# Altium integrated library Zarlink Comm Telephone Circuit.IntLib: 11 symbols
Pins are listed as number, name and electrical type; pins without a type are passive.

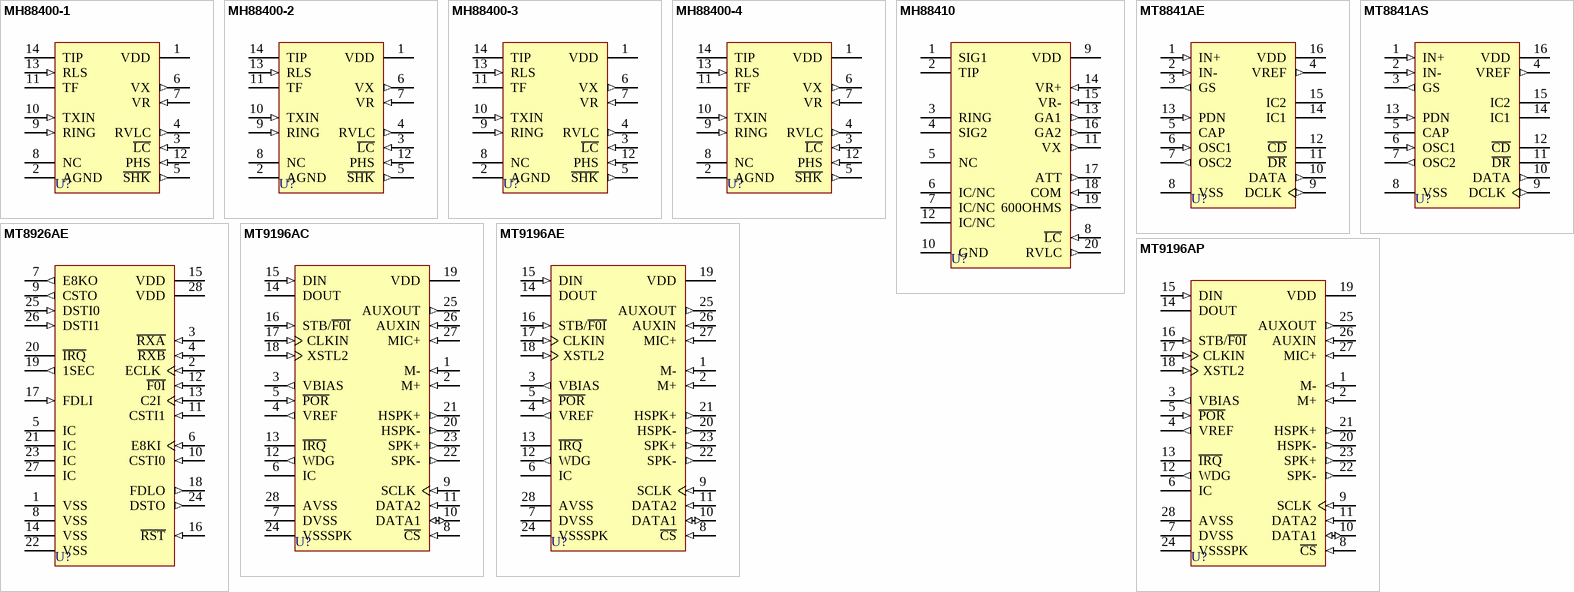
[diagram p0: symbols MH88400-1 to MT9196AP]

## MH88400-1
designator U?
Line Interface Circuit; Published: 8-Jun-2000; LatestRevisionDate: 17-Jul-2002; LatestRevisionNote: Re-released for DXP Platform.; DatasheetVersion: Issue 1 April 1995; PackageVersion: Apr-1995; PackageReference: DIL14; Publisher: Altium Limited; PackageDescription: DIP; 14 Round Pins; Row Space 22.86 mm; Pitch 5.08 mm; ComponentLink1Description: Manufacturer Link; ComponentLink1URL: http://www.zarlink.com/
footprint DIL14 (DIP; 14 Round Pins; Row Space 22.86 mm; Pitch 5.08 mm)
pins: 1 VDD (power), 2 AGND (power), 3 ~{LC} (in), 4 RVLC (out), 5 ~{SHK} (out), 6 VX (out), 7 VR (in), 8 NC, 9 RING (in), 10 TXIN (in), 11 TF, 12 PHS (in), 13 RLS (in), 14 TIP

## MH88400-2
designator U?
Line Interface Circuit; Published: 8-Jun-2000; LatestRevisionDate: 17-Jul-2002; LatestRevisionNote: Re-released for DXP Platform.; DatasheetVersion: Issue 1 April 1995; PackageVersion: Apr-1995; PackageReference: DIL14; Publisher: Altium Limited; PackageDescription: DIP; 14 Round Pins; Row Space 22.86 mm; Pitch 5.08 mm; ComponentLink1Description: Manufacturer Link; ComponentLink1URL: http://www.zarlink.com/
footprint DIL14 (DIP; 14 Round Pins; Row Space 22.86 mm; Pitch 5.08 mm)
pins: 1 VDD (power), 2 AGND (power), 3 ~{LC} (in), 4 RVLC (out), 5 ~{SHK} (out), 6 VX (out), 7 VR (in), 8 NC, 9 RING (in), 10 TXIN (in), 11 TF, 12 PHS (in), 13 RLS (in), 14 TIP

## MH88400-3
designator U?
Line Interface Circuit; Published: 8-Jun-2000; LatestRevisionDate: 17-Jul-2002; LatestRevisionNote: Re-released for DXP Platform.; DatasheetVersion: Issue 1 April 1995; PackageVersion: Apr-1995; PackageReference: DIL14; Publisher: Altium Limited; PackageDescription: DIP; 14 Round Pins; Row Space 22.86 mm; Pitch 5.08 mm; ComponentLink1Description: Manufacturer Link; ComponentLink1URL: http://www.zarlink.com/
footprint DIL14 (DIP; 14 Round Pins; Row Space 22.86 mm; Pitch 5.08 mm)
pins: 1 VDD (power), 2 AGND (power), 3 ~{LC} (in), 4 RVLC (out), 5 ~{SHK} (out), 6 VX (out), 7 VR (in), 8 NC, 9 RING (in), 10 TXIN (in), 11 TF, 12 PHS (in), 13 RLS (in), 14 TIP

## MH88400-4
designator U?
Line Interface Circuit; Published: 8-Jun-2000; LatestRevisionDate: 17-Jul-2002; LatestRevisionNote: Re-released for DXP Platform.; DatasheetVersion: Jan-1994; PackageVersion: Apr-1995; PackageReference: DIL14; Publisher: Altium Limited; PackageDescription: DIP; 14 Round Pins; Row Space 22.86 mm; Pitch 5.08 mm; ComponentLink1Description: Manufacturer Link; ComponentLink1URL: http://www.zarlink.com/
footprint DIL14 (DIP; 14 Round Pins; Row Space 22.86 mm; Pitch 5.08 mm)
pins: 1 VDD (power), 2 AGND (power), 3 ~{LC} (in), 4 RVLC (out), 5 ~{SHK} (out), 6 VX (out), 7 VR (in), 8 NC, 9 RING (in), 10 TXIN (in), 11 TF, 12 PHS (in), 13 RLS (in), 14 TIP

## MH88410
designator U?
Line Interface Circuit; Note: Pin 5, 6, 7 and 12 should be left unconnected.; ComponentAvailability: Obsolete; Published: 8-Jun-2000; LatestRevisionDate: 17-Jul-2002; LatestRevisionNote: Re-released for DXP Platform.; DatasheetVersion: Jan-1994; PackageReference: SIL20B; Publisher: Altium Limited; PackageDescription: SIP; 20 Leads; Body 50.8 x 8.4 mm (LxW typ); Pitch 2.54 mm; ComponentLink1Description: Manufacturer Link; ComponentLink1URL: http://www.zarlink.com/; ComponentLink2Description: Datasheet; ComponentLink2URL: http://assets.zarlink.com/DS/zarlink_MT8841_JAN_01.pdf; ComponentLink3Description: Discontinuation Notice; ComponentLink3URL: http://products.zarlink.com/product_profiles/MT8841.htm
footprint SIL20B (SIP; 20 Leads; Body 50.8 x 8.4 mm (LxW typ); Pitch 2.54 mm)
pins: 1 SIG1, 2 TIP, 3 RING, 4 SIG2, 5 NC, 6 IC/NC, 7 IC/NC, 8 ~{LC} (in), 9 VDD (power), 10 GND (power), 11 VX (out), 12 IC/NC, 13 GA1 (out), 14 VR+ (in), 15 VR- (in), 16 GA2 (out), 17 ATT (out), 18 COM (in), 19 600OHMS (out), 20 RVLC (out)

## MT8841AE
designator U?
Calling Number Identification Circuit; Note: Tie pin 14 to VSS; leave pin 15 open.; ComponentAvailability: Obsolete; Published: 8-Jun-2000; LatestRevisionDate: 17-Jul-2002; LatestRevisionNote: Re-released for DXP Platform.; DatasheetVersion: Issue 4 May 1995; PackageVersion: 1997; PackageReference: PDIP16; Publisher: Altium Limited; PackageDescription: DIP; 16 Leads; Row Spacing 7.62 mm; Pitch 2.54 mm; ComponentLink1Description: Manufacturer Link; ComponentLink1URL: http://www.zarlink.com/; ComponentLink2Description: Datasheet; ComponentLink2URL: http://assets.zarlink.com/DS/zarlink_MT8841_JAN_01.pdf; ComponentLink3Description: Discontinuation Notice; ComponentLink3URL: http://products.zarlink.com/product_profiles/MT8841.htm
footprint PDIP16 (DIP; 16 Leads; Row Spacing 7.62 mm; Pitch 2.54 mm)
pins: 1 IN+ (in), 2 IN- (in), 3 GS (out), 4 VREF (out), 5 CAP, 6 OSC1 (in), 7 OSC2 (out), 8 VSS (power), 9 DCLK (out), 10 DATA (out), 11 ~{DR} (oc), 12 ~{CD} (oc), 13 PDN (in), 14 IC1, 15 IC2, 16 VDD (power)

## MT8841AS
designator U?
Calling Number Identification Circuit; Note: Tie pin 14 to VSS; leave pin 15 open.; Published: 8-Jun-2000; LatestRevisionDate: 13-Apr-2006; LatestRevisionNote: IPC-7351 Footprint Added.; DatasheetVersion: Issue 4 May 1995; PackageVersion: 1997; PackageReference: SOIC16; Publisher: Altium Limited; PackageDescription: 16-Pin Small Outline Integrated Circuit 1.27 mm Pitch; Code_JEDEC: MS-013-AA; Code_IPC: SOIC127P1030-16; ComponentLink1Description: Manufacturer Link; ComponentLink1URL: http://www.zarlink.com/; ComponentLink2Description: Datasheet; ComponentLink2URL: http://assets.zarlink.com/DS/zarlink_MT8841_JAN_01.pdf; ComponentLink3Description: Discontinuation Notice; ComponentLink3URL: http://products.zarlink.com/product_profiles/MT8841.htm
footprint SOIC16_N (SOIC, 16-Leads, Body 10.3x7.6mm, Pitch 1.27mm, IPC Medium Density)
footprint SOIC16_L (SOIC, 16-Leads, Body 10.3x7.6mm, Pitch 1.27mm, IPC High Density)
footprint SOIC16_M (SOIC, 16-Leads, Body 10.3x7.6mm, Pitch 1.27mm, IPC Low Density)
pins: 1 IN+ (in), 2 IN- (in), 3 GS (out), 4 VREF (out), 5 CAP, 6 OSC1 (in), 7 OSC2 (out), 8 VSS (power), 9 DCLK (out), 10 DATA (out), 11 ~{DR} (oc), 12 ~{CD} (oc), 13 PDN (in), 14 IC1, 15 IC2, 16 VDD (power)

## MT8926AE
designator U?
T1 Performance Monitoring Adjust Circuit (PMAC); Note: Tie pin 5 and 27 to VSS for normal operation; pins 21 ans 23 must be left open for normal operation.; ComponentAvailability: Obsolete; Published: 8-Jun-2000; LatestRevisionDate: 17-Jul-2002; LatestRevisionNote: Re-released for DXP Platform.; DatasheetVersion: Issue 3 July 1993; PackageVersion: 1997; PackageReference: PDIP28; Publisher: Altium Limited; PackageDescription: DIP; 28 Leads; Row Spacing 15.24 mm; Pitch 2.54 mm; Code_JEDEC: MS-011-AB; ComponentLink1Description: Manufacturer Link; ComponentLink1URL: http://www.zarlink.com/; ComponentLink2Description: Datasheet; ComponentLink2URL: http://assets.zarlink.com/DS/zarlink_MT8926_JAN_97.pdf
footprint PDIP28 (DIP; 28 Leads; Row Spacing 15.24 mm; Pitch 2.54 mm)
pins: 1 VSS (power), 2 ECLK (in), 3 ~{RXA} (in), 4 ~{RXB} (in), 5 IC, 6 E8KI (in), 7 E8KO (out), 8 VSS (power), 9 CSTO (out), 10 CSTI0 (in), 11 CSTI1 (in), 12 ~{F0I} (in), 13 C2I (in), 14 VSS (power), 15 VDD (power), 16 ~{RST} (in), 17 FDLI (in), 18 FDLO (out), 19 1SEC (out), 20 ~{IRQ} (oc), 21 IC, 22 VSS (power), 23 IC, 24 DSTO (out), 25 DSTI0 (in), 26 DSTI1 (in), 27 IC, 28 VDD (power)

## MT9196AC
designator U?
C-Phone; Note: Tie pin 6 externally to VSS for normal operation.; Published: 8-Jun-2000; LatestRevisionDate: 17-Jul-2002; LatestRevisionNote: Re-released for DXP Platform.; DatasheetVersion: Issue 1 September 1993; PackageVersion: 1995; PackageReference: CDIP28; Publisher: Altium Limited; PackageDescription: DIP; 28 Leads; Row Spacing 15.24 mm; Pitch 2.54 mm; ComponentLink1Description: Manufacturer Link; ComponentLink1URL: http://www.zarlink.com/; ComponentLink2Description: Datasheet; ComponentLink2URL: http://assets.zarlink.com/DS/zarlink_MT9196_MAY_05.pdf
footprint CDIP28 (DIP; 28 Leads; Row Spacing 15.24 mm; Pitch 2.54 mm)
pins: 1 M- (in), 2 M+ (in), 3 VBIAS (out), 4 VREF (out), 5 ~{POR} (in), 6 IC, 7 DVSS (power), 8 ~{CS} (in), 9 SCLK (in), 10 DATA1 (io), 11 DATA2 (in), 12 WDG (out), 13 ~{IRQ} (oc), 14 DOUT (hiz), 15 DIN (in), 16 STB/~{F0I} (in), 17 CLKIN (in), 18 XSTL2 (in), 19 VDD (power), 20 HSPK- (out), 21 HSPK+ (out), 22 SPK- (out), 23 SPK+ (out), 24 VSSSPK (power), 25 AUXOUT (out), 26 AUXIN (in), 27 MIC+ (in), 28 AVSS (power)

## MT9196AE
designator U?
Integrated Digital Phone Circuit (IDPC); Note: Tie pin 6 to VSS externally for normal operation.; Published: 8-Jun-2000; LatestRevisionDate: 17-Jul-2002; LatestRevisionNote: Re-released for DXP Platform.; DatasheetVersion: Issue 4 December 1995; PackageVersion: 1997; PackageReference: PDIP28; Publisher: Altium Limited; PackageDescription: DIP; 28 Leads; Row Spacing 15.24 mm; Pitch 2.54 mm; Code_JEDEC: MS-011-AB; ComponentLink1Description: Manufacturer Link; ComponentLink1URL: http://www.zarlink.com/; ComponentLink2Description: Datasheet; ComponentLink2URL: http://assets.zarlink.com/DS/zarlink_MT9196_MAY_05.pdf
footprint PDIP28 (DIP; 28 Leads; Row Spacing 15.24 mm; Pitch 2.54 mm)
pins: 1 M- (in), 2 M+ (in), 3 VBIAS (out), 4 VREF (out), 5 ~{POR} (in), 6 IC, 7 DVSS (power), 8 ~{CS} (in), 9 SCLK (in), 10 DATA1 (io), 11 DATA2 (in), 12 WDG (out), 13 ~{IRQ} (oc), 14 DOUT (hiz), 15 DIN (in), 16 STB/~{F0I} (in), 17 CLKIN (in), 18 XSTL2 (in), 19 VDD (power), 20 HSPK- (out), 21 HSPK+ (out), 22 SPK- (out), 23 SPK+ (out), 24 VSSSPK (power), 25 AUXOUT (out), 26 AUXIN (in), 27 MIC+ (in), 28 AVSS (power)

## MT9196AP
designator U?
Integrated Digital Phone Circuit (IDPC); Note: Tie pin 6 to VSS externally for normal operation.; Published: 8-Jun-2000; LatestRevisionDate: 13-Apr-2006; LatestRevisionNote: IPC-7351 Footprint Added.; DatasheetVersion: Issue 4 December 1995; PackageVersion: 1997; PackageReference: PLCC28; Publisher: Altium Limited; PackageDescription: 28-Pin Leaded Chip Carrier 1.27 mm Pitch; Code_IPC: PLCC-28; ComponentLink1Description: Manufacturer Link; ComponentLink1URL: http://www.zarlink.com/; ComponentLink2Description: Datasheet; ComponentLink2URL: http://assets.zarlink.com/DS/zarlink_MT9196_MAY_05.pdf
footprint PLCC28_N (Leaded Chip Carrier, 28-Leads, Body 11.5x11.5mm, Pitch 1.27mm, IPC Medium Density)
footprint PLCC28_L (Leaded Chip Carrier, 28-Leads, Body 11.5x11.5mm, Pitch 1.27mm, IPC High Density)
footprint PLCC28_M (Leaded Chip Carrier, 28-Leads, Body 11.5x11.5mm, Pitch 1.27mm, IPC Low Density)
pins: 1 M- (in), 2 M+ (in), 3 VBIAS (out), 4 VREF (out), 5 ~{POR} (in), 6 IC, 7 DVSS (power), 8 ~{CS} (in), 9 SCLK (in), 10 DATA1 (io), 11 DATA2 (in), 12 WDG (out), 13 ~{IRQ} (oc), 14 DOUT (hiz), 15 DIN (in), 16 STB/~{F0I} (in), 17 CLKIN (in), 18 XSTL2 (in), 19 VDD (power), 20 HSPK- (out), 21 HSPK+ (out), 22 SPK- (out), 23 SPK+ (out), 24 VSSSPK (power), 25 AUXOUT (out), 26 AUXIN (in), 27 MIC+ (in), 28 AVSS (power)